# Altium schematic symbol library УГО.SchLib: 36 symbols
Pins are listed as number, name and electrical type; pins without a type are passive.

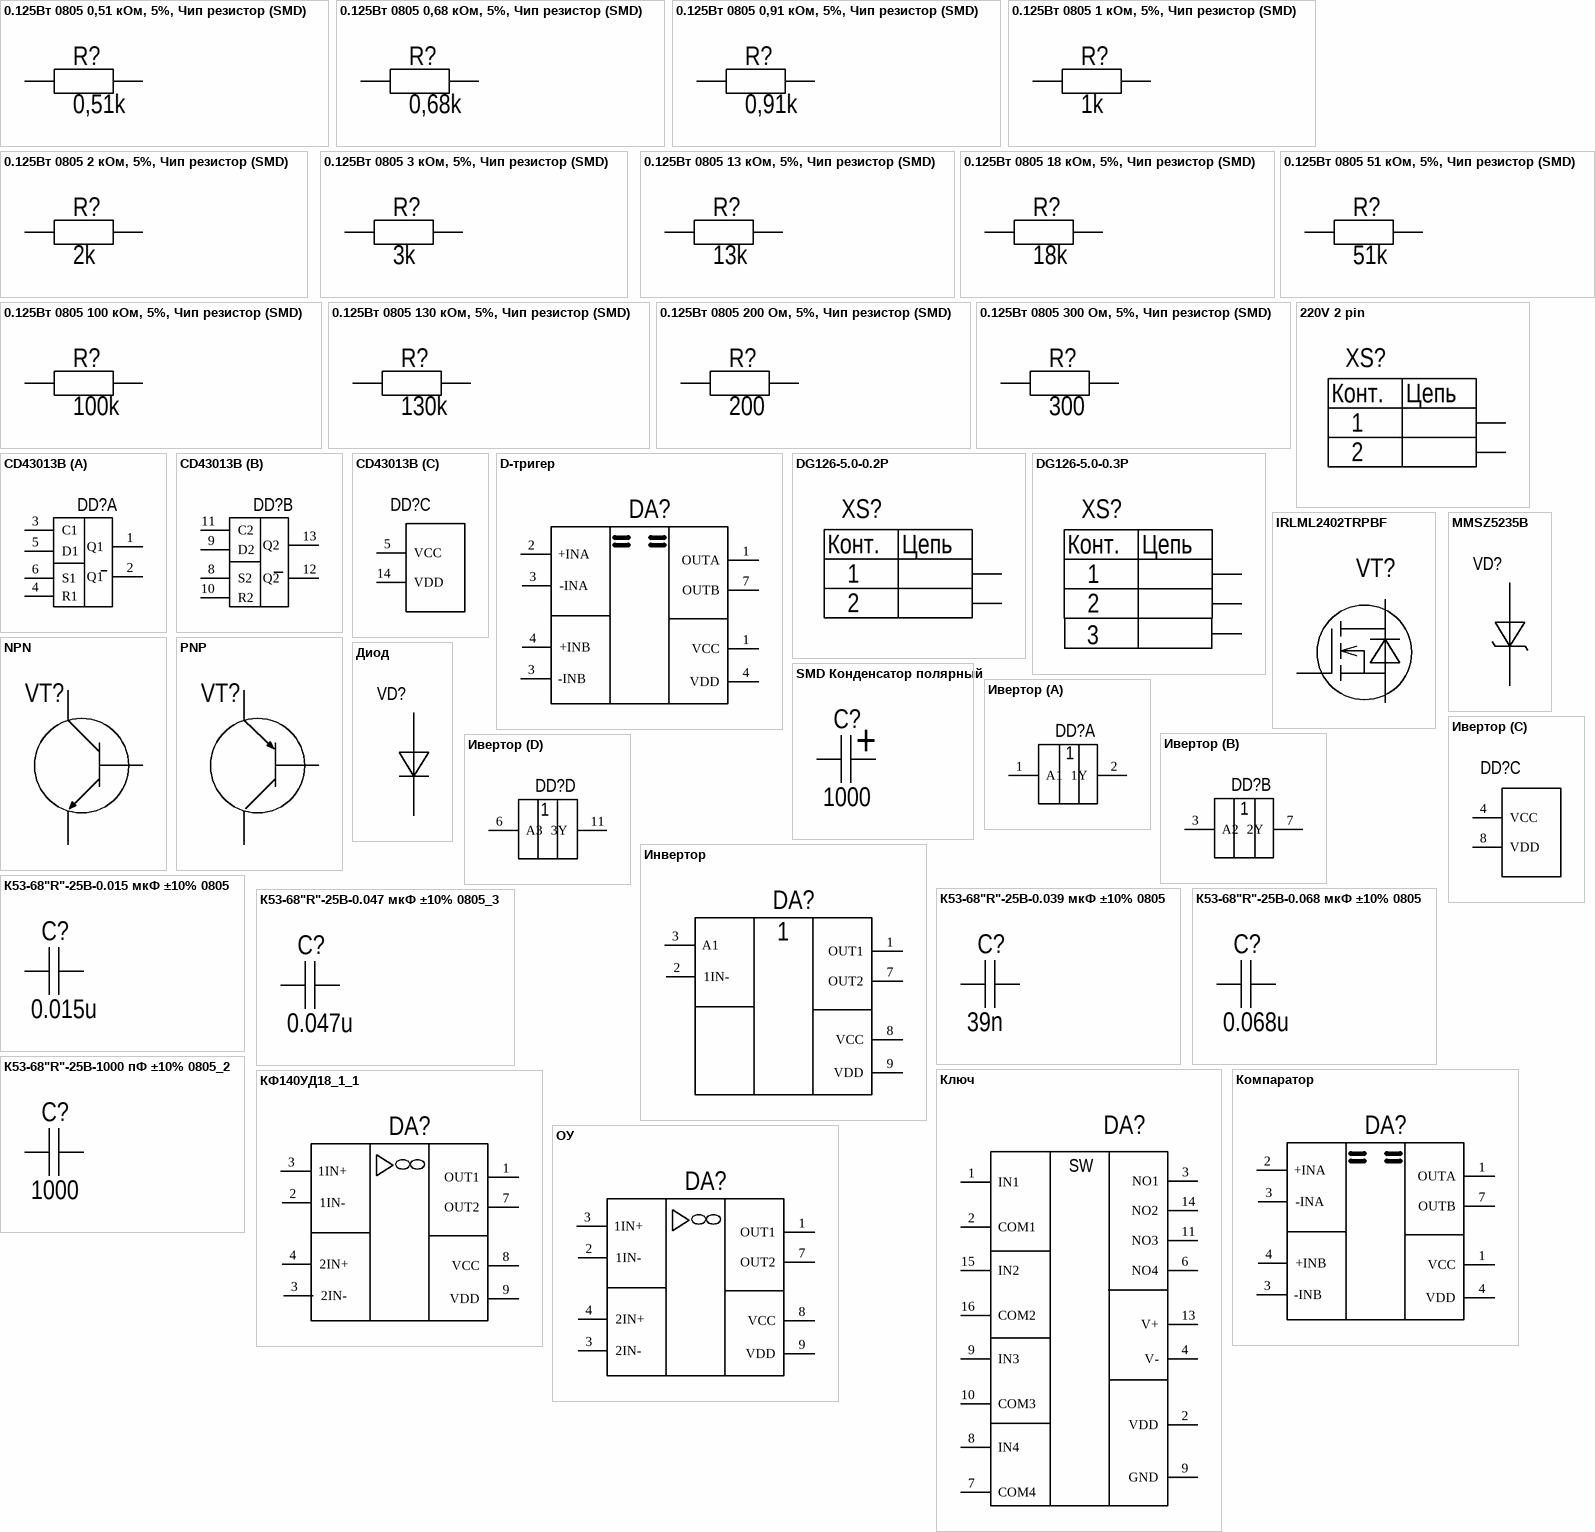
[diagram p0: symbols 0.125Вт 0805 0,51 кОм, 5%, Чип резистор (SMD) to ОУ]

## 0.125Вт 0805 0,51 кОм, 5%, Чип резистор (SMD)
designator R?, comment 0,51k
0805-0.125 Вт -0,51 кОм±5%
footprint 0805 (Чип (SMD))
pins: 1, 2

## 0.125Вт 0805 0,68 кОм, 5%, Чип резистор (SMD)
designator R?, comment 0,68k
0805-0.125 Вт -0,68 кОм±5%
footprint 0805 (Чип (SMD))
pins: 1, 2

## 0.125Вт 0805 0,91 кОм, 5%, Чип резистор (SMD)
designator R?, comment 0,91k
0805-0.125 Вт -0,91 кОм±5%
footprint 0805 (Чип (SMD))
pins: 1, 2

## 0.125Вт 0805 1 кОм, 5%, Чип резистор (SMD)
designator R?, comment 1k
0805-0.125 Вт -1 кОм±5%
footprint 0805 (Чип (SMD))
pins: 1, 2

## 0.125Вт 0805 2 кОм, 5%, Чип резистор (SMD)
designator R?, comment 2k
0805-0.125 Вт -2 кОм±5%
footprint 0805 (Чип (SMD))
pins: 1, 2

## 0.125Вт 0805 3 кОм, 5%, Чип резистор (SMD)
designator R?, comment 3k
0805-0.125 Вт -3 кОм±5%
footprint 0805 (Чип (SMD))
pins: 1, 2

## 0.125Вт 0805 13 кОм, 5%, Чип резистор (SMD)
designator R?, comment 13k
0805-0.125 Вт -13 кОм±5%
footprint 0805 (Чип (SMD))
pins: 1, 2

## 0.125Вт 0805 18 кОм, 5%, Чип резистор (SMD)
designator R?, comment 18k
0805-0.125 Вт -18 кОм±5%
footprint 0805 (Чип (SMD))
pins: 1, 2

## 0.125Вт 0805 51 кОм, 5%, Чип резистор (SMD)
designator R?, comment 51k
0805-0.125 Вт -51 кОм±5%
footprint 0805 (Чип (SMD))
pins: 1, 2

## 0.125Вт 0805 100 кОм, 5%, Чип резистор (SMD)
designator R?, comment 100k
0805-0.125 Вт -100 кОм±5%
footprint 0805 (Чип (SMD))
pins: 1, 2

## 0.125Вт 0805 130 кОм, 5%, Чип резистор (SMD)
designator R?, comment 130k
0805-0.125 Вт -130 кОм±5%
footprint 0805 (Чип (SMD))
pins: 1, 2

## 0.125Вт 0805 200 Ом, 5%, Чип резистор (SMD)
designator R?, comment 200
0805-0.125 Вт -200 Ом±5%
footprint 0805 (Чип (SMD))
pins: 1, 2

## 0.125Вт 0805 300 Ом, 5%, Чип резистор (SMD)
designator R?, comment 300
0805-0.125 Вт -300 Ом±5%
footprint 0805 (Чип (SMD))
pins: 1, 2

## 220V 2 pin
designator XS?  (value not drawn)
DG126-5.0-0.2P
footprint DG126-5.0-02P
pins: 1 Pin1, 2 Pin2
text: Конт.; Цепь

## CD43013B
designator DD?  (value not drawn)
footprint SOIC 14 (SOIC, 14-Leads, Body 8,65x3,90mm, Pitch 1,27mm, IPC Medium Density)
part A pins: 1 Q1, 2 Q1, 3 С1, 4 R1, 5 D1, 6 S1
part B pins: 8 S2, 9 D2, 10 R2, 11 C2, 12 Q2, 13 Q2
part C pins: 5 VCC, 14 VDD

## D-тригер
designator DA?, comment КФ140УД18  (value not drawn)
AD790JNZ
footprint SOIC-8 (SOIC, 8-Leads, Body 4,90x3,90mm, Pitch 1,27mm, IPC Medium Density)
pins: 1 VCC, 1 OUTA, 2 +INA, 3 -INA, 3 -INB, 4 VDD, 4 +INB, 7 OUTB

## DG126-5.0-0.2P
designator XS?  (value not drawn)
DG126-5.0-0.2P
footprint DG126-5.0-02P
pins: 1 Pin1, 2 Pin2
text: Конт.; Цепь

## DG126-5.0-0.3P
designator XS?  (value not drawn)
DG126-5.0-0.2P
footprint CI1108M1H - duplicate
pins: 1 Pin1, 2 Pin2, 3 Pin3
text: Конт.; Цепь

## IRLML2402TRPBF
designator VT?  (value not drawn)
SI2304DDS-T1-GE3
footprint SOT23 (SOT23, 3-Leads, Body 2,92x2,45mm, Pitch 0,95mm, IPC Medium Density)
pins: 1 G, 2 S, 3 D

## MMSZ5235B
designator VD?  (value not drawn)
MMSZ5235B
footprint SOD-123 ((SMD))
pins: 1 In, 2 Out

## NPN
designator VT?  (value not drawn)
SI2304DDS-T1-GE3
footprint SOT23 (SOT23, 3-Leads, Body 2,92x2,45mm, Pitch 0,95mm, IPC Medium Density)
pins: 1, 2, 3

## PNP
designator VT?  (value not drawn)
SI2304DDS-T1-GE3
footprint SOT23 (SOT23, 3-Leads, Body 2,92x2,45mm, Pitch 0,95mm, IPC Medium Density)
pins: 1, 2, 3

## SMD Конденсатор полярный
designator C?, comment 1000
К53-68"R"-25В-1000 пФ ±10%
footprint ECAP SMD, 1 мкФ, 50В, Конденсатор электролитический алюминиевый SMD
pins: 1, 2
text: +

## Диод
designator VD?  (value not drawn)
MMSZ5235B
footprint SOD-123 ((SMD))
pins: 1 In, 2 Out

## Ивертор
designator DD?, comment CD43013B  (value not drawn)
footprint SOIC-8 (SOIC, 8-Leads, Body 4,90x3,90mm, Pitch 1,27mm, IPC Medium Density)
part A pins: 1 A1, 2 1Y
part B pins: 3 A2, 7 2Y
part C pins: 4 VCC, 8 VDD
part D pins: 6 A3, 11 3Y

## Инвертор
designator DA?, comment 1
КФ140УД18
footprint SOIC-8 (SOIC, 8-Leads, Body 4,90x3,90mm, Pitch 1,27mm, IPC Medium Density)
pins: 1 OUT1, 2 1IN-, 3 A1, 7 OUT2, 8 VCC, 9 VDD

## К53-68"R"-25В-0.015 мкФ ±10% 0805
designator C?, comment 0.015u
К53-68"R"-25В-0.015 мкФ ±10%
footprint 0805 (Чип (SMD))
pins: 1, 2

## К53-68"R"-25В-0.039 мкФ ±10% 0805
designator C?, comment 39n
К53-68"R"-25В-0.039 мкФ ±10%
footprint 0805 (Чип (SMD))
pins: 1, 2

## К53-68"R"-25В-0.047 мкФ ±10% 0805_3
designator C?, comment 0.047u
К53-68"R"-25В-0.047 мкФ ±10%
footprint 0805 (Чип (SMD))
pins: 1, 2

## К53-68"R"-25В-0.068 мкФ ±10% 0805
designator C?, comment 0.068u
К53-68"R"-25В-0.068 мкФ ±10%
footprint 0805 (Чип (SMD))
pins: 1, 2

## К53-68"R"-25В-1000 пФ ±10% 0805_2
designator C?, comment 1000
К53-68"R"-25В-1000 пФ ±10%
footprint 0805 (Чип (SMD))
pins: 1, 2

## Ключ
designator DA?, comment КФ140УД18  (value not drawn)
footprint CD4044B (SOIC, 16-Leads, Body 10,30x7,50mm, Pitch 1,27mm, IPC Medium Density)
pins: 1 IN1, 2 COM1, 2 VDD, 3 NO1, 4 V-, 6 NO4, 7 COM4, 8 IN4, 9 IN3, 9 GND, 10 COM3, 11 NO3, 13 V+, 14 NO2, 15 IN2, 16 COM2
text: SW

## Компаратор
designator DA?, comment КФ140УД18  (value not drawn)
AD790JNZ
footprint SOIC-8 (SOIC, 8-Leads, Body 4,90x3,90mm, Pitch 1,27mm, IPC Medium Density)
pins: 1 VCC, 1 OUTA, 2 +INA, 3 -INA, 3 -INB, 4 VDD, 4 +INB, 7 OUTB

## КФ140УД18_1_1
designator DA?, comment КФ140УД18  (value not drawn)
footprint SOIC-8 (SOIC, 8-Leads, Body 4,90x3,90mm, Pitch 1,27mm, IPC Medium Density)
pins: 1 OUT1, 2 1IN-, 3 1IN+, 3 2IN-, 4 2IN+, 7 OUT2, 8 VCC, 9 VDD

## ОУ
designator DA?, comment КФ140УД18  (value not drawn)
footprint SOIC-8 (SOIC, 8-Leads, Body 4,90x3,90mm, Pitch 1,27mm, IPC Medium Density)
pins: 1 OUT1, 2 1IN-, 3 1IN+, 3 2IN-, 4 2IN+, 7 OUT2, 8 VCC, 9 VDD

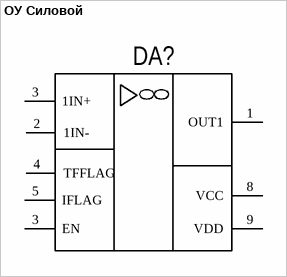
[diagram p1: symbol ОУ Силовой]

## ОУ Силовой
designator DA?, comment КФ140УД18  (value not drawn)
footprint SOIC-8 (SOIC, 8-Leads, Body 4,90x3,90mm, Pitch 1,27mm, IPC Medium Density)
pins: 1 OUT1, 2 1IN-, 3 1IN+, 3 EN, 4 TFFLAG, 5 IFLAG, 8 VCC, 9 VDD